# EAGLE library part LM391 (library SparkFun-IC-Special-Function)
LM3914 Dot/Bar Display Driver TTL/CMOS Logic Drives LEDs, LCDs, Vacuum Fluorecents Source: Data sheet LM3915 <http://www.national.com/ds/LM/LM3915.pdf> Data sheet LM3914 <http://www.national.com/ds/LM/LM3914.pdf> SparkFun Products: MyoWare LED Shield <https://www.sparkfun.com/products/13688> Dot/Bar Display Driver - LM3914 <https://www.sparkfun.com/products/12694>
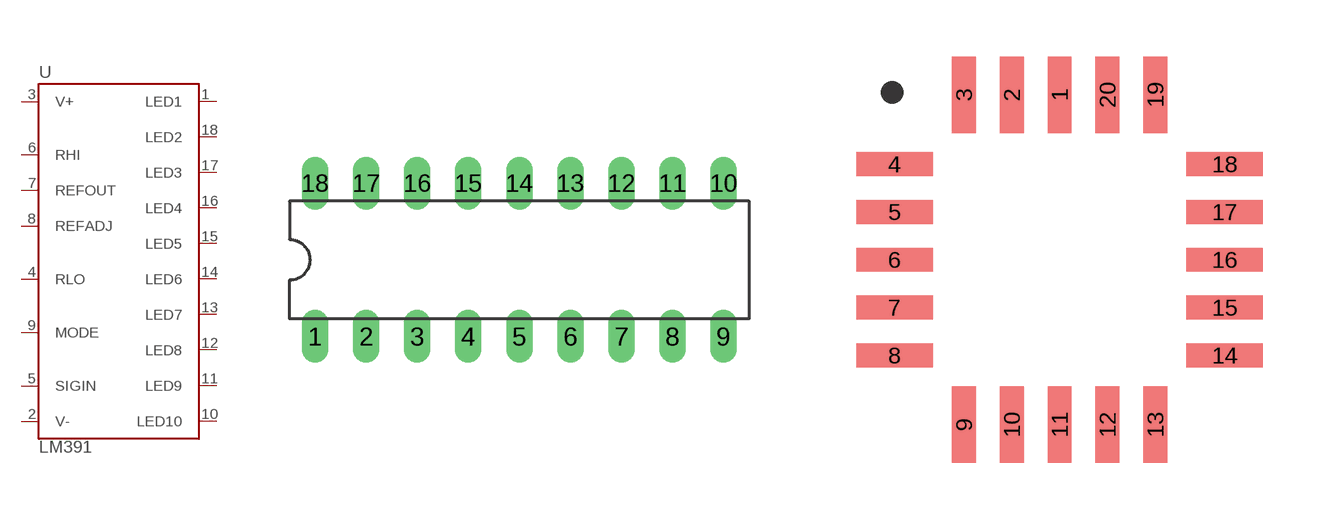
[diagram p9: symbol with the pads of DIL18; footprints DIL18, PLCC20S]

Designator prefix U

## LM391N (SF_ID: COM-12694), LM3914N, LM3915N  [DIL18]
1  LED1  out
2  V-  pwr
3  V+  pwr
4  RLO  in
5  SIGIN  in
6  RHI  in
7  REFOUT  out
8  REFADJ  pas
9  MODE  in
10  LED10  out
11  LED9  out
12  LED8  out
13  LED7  out
14  LED6  out
15  LED5  out
16  LED4  out
17  LED3  out
18  LED2  out

## LM391V, LM3914V (PROD_ID: IC-13110)  [PLCC20S]
1  LED1  out
2  V-  pwr
3  V+  pwr
4  RLO  in
5  SIGIN  in
6  RHI  in
8  REFOUT  out
10  REFADJ  pas
11  MODE  in
12  LED10  out
13  LED9  out
14  LED8  out
15  LED7  out
16  LED6  out
17  LED5  out
18  LED4  out
19  LED3  out
20  LED2  out

## Footprint DIL18 (pad centres in mm)
Dual In Line Package - 18 Pin Specifications: Pin count: 18 Example device(s): LM391
drill 0.813 long: 1 -10.16,-3.81; 2 -7.62,-3.81; 3 -5.08,-3.81; 4 -2.54,-3.81; 5 0,-3.81; 6 2.54,-3.81; 7 5.08,-3.81; 8 7.62,-3.81; 9 10.16,-3.81; 10 10.16,3.81; 11 7.62,3.81; 12 5.08,3.81; 13 2.54,3.81; 14 0,3.81; 15 -2.54,3.81; 16 -5.08,3.81; 17 -7.62,3.81; 18 -10.16,3.81

## Footprint PLCC20S (pad centres in mm)
PLCC 20 Pin Square Specifications: Pin count: 20 Datasheet referenced for footprint Example device(s): LM391
smd 0.63 x 2.035: 1 0,4.383; 2 -1.27,4.383; 3 -2.54,4.383; 9 -2.54,-4.383; 10 -1.27,-4.383; 11 0,-4.383; 12 1.27,-4.383; 13 2.54,-4.383; 19 2.54,4.383; 20 1.27,4.383
smd 2.035 x 0.63: 4 -4.383,2.54; 5 -4.383,1.27; 6 -4.383,0; 7 -4.383,-1.27; 8 -4.383,-2.54; 14 4.383,-2.54; 15 4.383,-1.27; 16 4.383,0; 17 4.383,1.27; 18 4.383,2.54